# EAGLE library part TPS78633 (library Traficon)
ULTRALOW-NOISE, HIGH-PSRR, FAST, RF, 1.5-A LOW-DROPOUT LINEAR REGULATORS
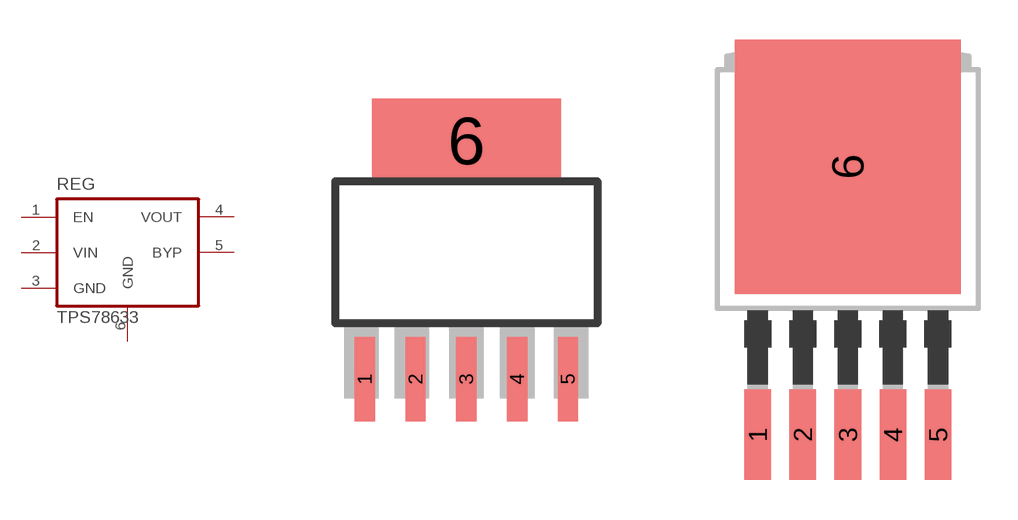
[diagram p92: symbol with the pads of SOT223-6; footprints SOT223-6, TO263-51]

Designator prefix REG

## TPS78633DCQ  [SOT223-6]
1  EN
2  VIN
3  GND
4  VOUT
5  BYP
6  GND

## TPS78633KTT  [TO263-51]
Pads as for SOT223-6

## Footprint SOT223-6 (pad centres in mm)
smd 0.508 x 2.108: 1 -2.54,-2.54; 2 -1.27,-2.54; 3 0,-2.54; 4 1.27,-2.54; 5 2.54,-2.54
smd 4.724 x 2.108: 6 0,3.429

## Footprint TO263-51 (pad centres in mm)
Transistor Outline Package P-TO263-5-1 SIEMENS TLE4270
smd 1 x 3.4: 1 -3.4,-6.6; 2 -1.7,-6.6; 3 0,-6.6; 4 1.7,-6.6; 5 3.4,-6.6
smd 8.5 x 9.6: 6 0,3.5